# EAGLE library part IPG20N04S4L (library IPG20N04S4L)
Dual N-channel MOSFET. 20A, Vds,max=40V, Rdson,max=8.2mR Datasheet at Farnell <http://www.farnell.com/datasheets/1932535.pdf?_ga=2.17787385.1360937002.1515340557-241923561.1513546305&_gac=1.22370633.1514846378.Cj0KCQiA1afSBRD2ARIsAEvBsNl_y5JmDMBzAF42O03K2v0vVKA9sTXvKaycQKQC2h6kTph-o7M1zWkaAg_oEALw_wcB>
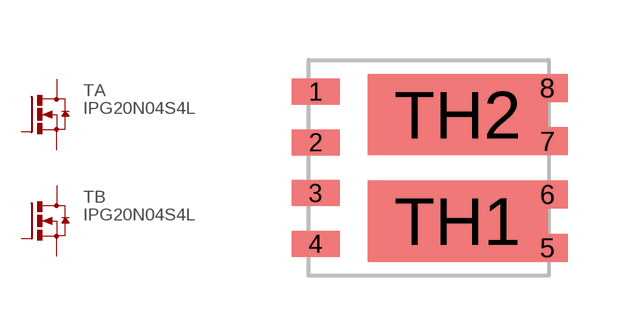
[diagram p0: symbol with the pads of PG-TDSON-8; footprint PG-TDSON-8]

Designator prefix T; gates A=MOSFET_N B=MOSFET_N

## IPG20N04S4L  [PG-TDSON-8]
1  A:S  pas
2  A:G  pas
3  B:S  pas
4  B:G  pas
5  B:D  pas
6  B:D  pas
7  A:D  pas
8  A:D  pas
TH1  B:D  pas
TH2  A:D  pas

## Footprint PG-TDSON-8 (pad centres in mm)
PG-TDSON-8 Source: Data sheet <http://www.infineon.com/dgdl/BSC340N08NS3G_rev2.4.pdf?folderId=db3a304313b8b5a60113cee8763b02d7&fileId=db3a30431add1d95011ae81c21f2563a>
smd 1.2 x 0.65: 1 -2.825,1.905; 2 -2.825,0.635; 3 -2.825,-0.635; 4 -2.825,-1.905
smd 1 x 0.7: 5 2.975,-2; 6 2.975,-0.665; 7 2.975,0.665; 8 2.975,2
smd 4.5 x 2.035: TH1 0.725,-1.333; TH2 0.725,1.333